# Altium footprint library LT-P-3-S-TO-247.PcbLib: 1 footprints
Each footprint in its own frame and in the unit in brackets; x right, y up, seen from the top. Pads: shape width x height; smd on the part's side, far side on the other; paste and mask are expansions set on the pad; w line width, h text height; cw(c..) or ccw(c..) is an arc to the next point about the centre after c.
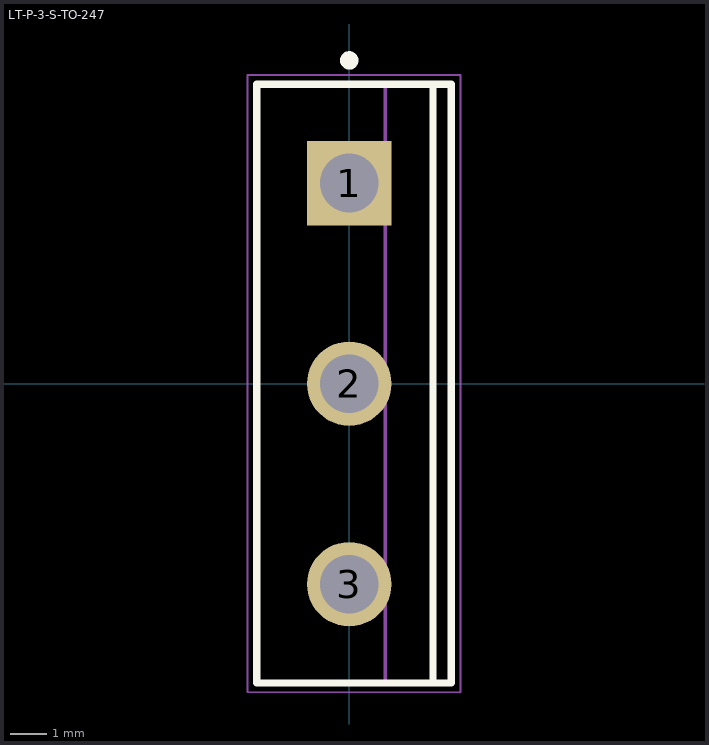
[diagram p0: the footprint, top view; thin cyan lines are the x and y axes]

## LT-P-3-S-TO-247 [mm] "FM, 3-Leads, Body 16.3x5.3mm, Pitch 5.46mm"
height 26.42
pads (3):
  rect 2.3x2.3 hole 1.6: 1(0,5.46)
  round 2.3 hole 1.6: 2(0,0) 3(0,-5.46)
Top Overlay:
  circle w0.25: c0,8.8 r0.125
  lines w0.2: 2.28,-8.15 2.28,8.15 ; -2.52,-8.15 -2.52,8.15 2.78,8.15 2.78,-8.15 -2.52,-8.15
Mechanical 13:
  lines w0.1: 0.98,-8.15 0.98,8.15 ; -2.52,-8.15 2.78,-8.15 2.78,8.15 -2.52,8.15 -2.52,-8.15
Mechanical 15:
  lines w0.05: -2.77,-8.4 3.03,-8.4 3.03,8.4 -2.77,8.4 -2.77,-8.4
  lines w0.1: -0.5,0 0.5,0 ; 0,-0.5 0,0.5
3D body: height 0, standoff -1.6, extent -0.385,-6.06 0.385,-4.86
3D body: height 4.32, standoff 0, extent -0.385,-6.465 0.385,-4.455
3D body: height 0, standoff -1.6, extent -0.385,-0.6 0.385,0.6
3D body: height 4.32, standoff 0, extent -0.385,-1.005 0.385,1.005
3D body: height 0, standoff -1.6, extent -0.385,4.86 0.385,6.06
3D body: height 4.32, standoff 0, extent -0.385,4.455 0.385,6.465
3D body: height 26.42, standoff 4.32, extent -2.52,-8.15 2.78,8.15